# EAGLE library part SEGMENT_CLOCK_MODULE_3_DIGIT_COMMON_CATHODE (library project_specific_parts)
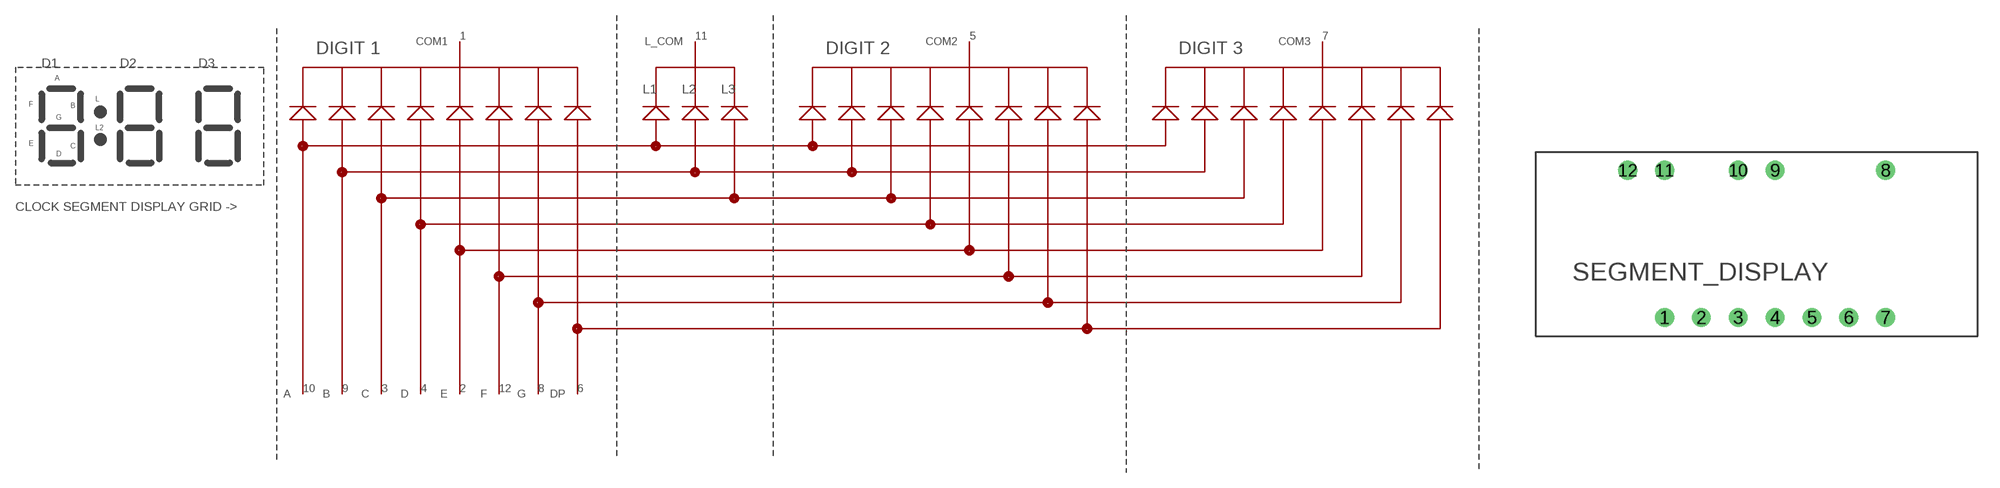
[diagram p1: symbol with the pads of SEGMENT_CLOCK_DISPLAY_HDSP_433G; footprint SEGMENT_CLOCK_DISPLAY_HDSP_433G]

Designator prefix SEGMENT

## SEGMENT_CLOCK_MODULE_3_DIGIT_COMMON_CATHODE  [SEGMENT_CLOCK_DISPLAY_HDSP_433G]
1  COM1
2  E
3  C
4  D
5  COM2
6  DP
7  COM3
8  G
9  B
10  A
11  L_COM
12  F

## Footprint SEGMENT_CLOCK_DISPLAY_HDSP_433G (pad centres in mm)
drill 0.8 round: 1 0,-5.08; 2 2.54,-5.08; 3 5.08,-5.08; 4 7.62,-5.08; 5 10.16,-5.08; 6 12.7,-5.08; 7 15.24,-5.08; 8 15.24,5.08; 9 7.62,5.08; 10 5.08,5.08; 11 0,5.08; 12 -2.54,5.08